# Altium footprint library GasDischargeTube.PcbLib: 1 footprints
Each footprint in its own frame and in the unit in brackets; x right, y up, seen from the top. Pads: shape width x height; smd on the part's side, far side on the other; paste and mask are expansions set on the pad; w line width, h text height; cw(c..) or ccw(c..) is an arc to the next point about the centre after c.
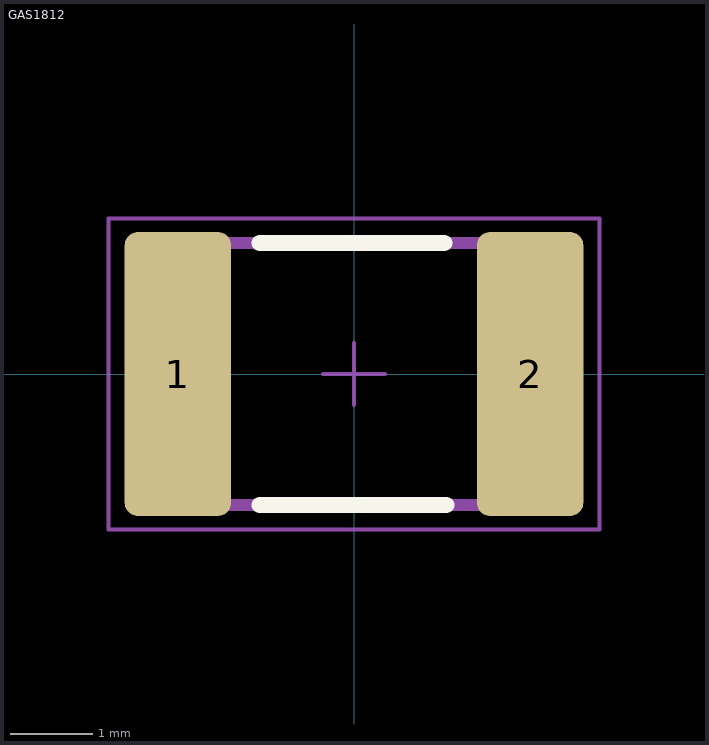
[diagram p0: the footprint, top view; thin cyan lines are the x and y axes]

## GAS1812 [mm]
height 1.7
pads (2):
  rrect25% 1.3x3.47 smd: 1(-2.15,0) 2(2.15,0)
Top Overlay:
  lines w0.2: -1.15,-1.6 1.125,-1.6 ; -1.15,1.6 1.1,1.6
Mechanical 9:
  text ".Designator" at -4.75,2.5 h3
Mechanical 10:
  text ".Comment" at -3,-3.5 h2
Mechanical 13:
  lines w0.15: -2.25,-1.6 -2.25,1.6 2.25,1.6 2.25,-1.6 -2.25,-1.6
Mechanical 15:
  lines w0.05: -0.375,0 0.375,0 ; 0,-0.375 0,0.375 ; -3,-1.9 -3,1.9 3,1.9 3,-1.9 -3,-1.9
3D body "User Library-SG75.step": height 2.6, standoff -0.1, extent -2.25,-1.6 2.25,1.6